# EAGLE library part TRHEI422-2 (library #PaJa_30)
Transformator - do DPS - 6 VA - 2x sek.
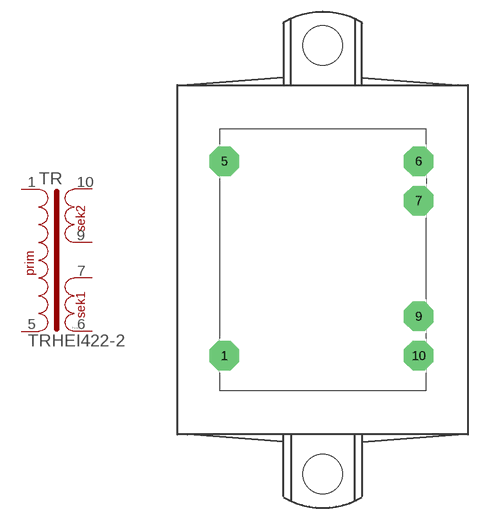
[diagram p44: symbol with the pads of TRHEI422; footprint TRHEI422]

Designator prefix TR

## TRHEI422-2  [TRHEI422]
1  P1  pas
5  P2  pas
6  S1-1  pas
7  S1-2  pas
9  S2-1  pas
10  S2-2  pas

## Footprint TRHEI422 (pad centres in mm)
drill 1.27 pad 3.81 octagon: 1 -12.7,-12.383; 5 -12.7,12.7; 6 12.383,12.7; 7 12.383,7.62; 9 12.383,-7.303; 10 12.383,-12.383
hole 5.08 at 0,27.622
hole 5.08 at 0,-27.622